# Altium footprint library SOT883B.PcbLib: 1 footprints
Each footprint in its own frame and in the unit in brackets; x right, y up, seen from the top. Pads: shape width x height; smd on the part's side, far side on the other; paste and mask are expansions set on the pad; w line width, h text height; cw(c..) or ccw(c..) is an arc to the next point about the centre after c.
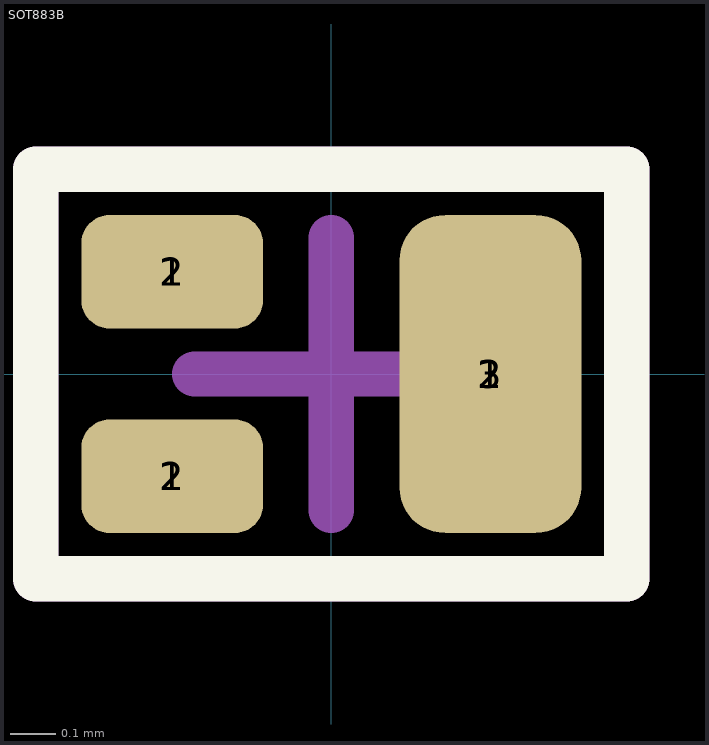
[diagram p0: the footprint, top view; thin cyan lines are the x and y axes]

## SOT883B [mm]
pads (9):
  rrect50% 0.3x0.25 on Top Paste: 1(-0.35,-0.225) 1(-0.35,0.225)
  rrect50% 0.4x0.25 smd paste-0.5 mask-0.5: 1(-0.35,0.225) 2(-0.35,-0.225)
  rect 0.3x0.6 on Top Paste: 1(0.35,0)
  rect 0.5x0.35 on Top Solder paste-0.5 mask-0.5: 2(-0.35,-0.225) 2(-0.35,0.225)
  rect 0.5x0.8 on Top Solder paste-0.5 mask-0.5: 2(0.35,0)
  rrect50% 0.4x0.7 smd paste-0.5 mask-0.5: 3(0.35,0)
Top Overlay:
  lines w0.1: -0.65,-0.45 -0.65,0.45 0.65,0.45 0.65,-0.45 -0.65,-0.45
Mechanical 13:
  lines w0.1: -0.65,-0.45 -0.65,0.45 0.65,0.45 0.65,-0.45 -0.65,-0.45
Mechanical 15:
  lines w0.1: -0.3,0 0.3,0 ; 0,-0.3 0,0.3 ; -0.65,-0.45 0.65,-0.45 0.65,0.45 -0.65,0.45 -0.65,-0.45
3D body: height 0.44, standoff 0.04, extent -0.525,-0.325 0.525,0.325